# Altium footprint library PCB - CONNECTOR - MOLEX - MOLEX 0526100833.PcbLib: 1 footprints
Each footprint in its own frame and in the unit in brackets; x right, y up, seen from the top. Pads: shape width x height; smd on the part's side, far side on the other; paste and mask are expansions set on the pad; w line width, h text height; cw(c..) or ccw(c..) is an arc to the next point about the centre after c.
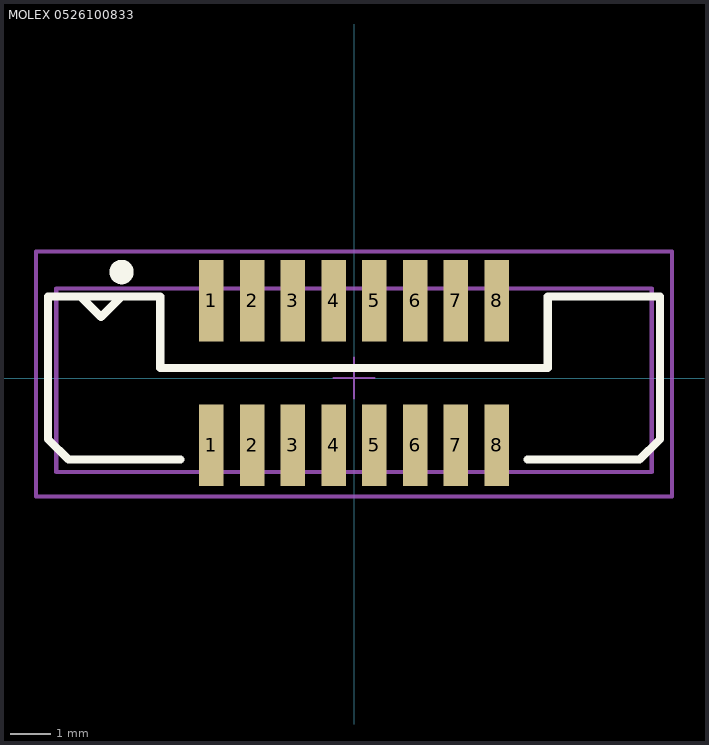
[diagram p0: the footprint, top view; thin cyan lines are the x and y axes]

## MOLEX 0526100833 [mm] "8 Position FPC Connector Contacts, Vertical - 1 Sided 0.039\" (1.00mm) Surface Mount"
height 7.25
pads (16):
  rect 0.6x2 smd mask+0.1: 1(-3.5,1.9) 1(-3.5,-1.65) 2(-2.5,1.9) 2(-2.5,-1.65) 3(-1.5,1.9) 3(-1.5,-1.65) 4(-0.5,1.9) 4(-0.5,-1.65) 5(0.5,1.9) 5(0.5,-1.65) 6(1.5,1.9) 6(1.5,-1.65) 7(2.5,1.9) 7(2.5,-1.65) 8(3.5,1.9) 8(3.5,-1.65)
Top Overlay:
  circle w0.3: c-5.7,2.6 r0.15
  lines w0.2: -6.7,2 -6.2,1.5 -5.7,2 ; -4.25,-2 -7,-2 -7.5,-1.5 -7.5,2 -4.75,2 -4.75,0.25 4.75,0.25 4.75,2 7.5,2 7.5,1.6 7.5,-1.5 7,-2 4.25,-2
Mechanical 13:
  lines w0.1: -7.3,-2.3 -7.3,2.2 7.3,2.2 7.3,-2.3 -7.3,-2.3
Mechanical 15 (Mech15):
  lines w0.05: -0.5,0 0,0 ; 0,-0.5 0,0 ; 0,0.5 0,0 ; 0.5,0 0,0
  lines w0.1: -7.8,-2.9 -7.8,3.1 7.8,3.1 7.8,-2.9 -7.8,-2.9
3D body "Molex - 526100833.stp": height 5.73, standoff -0.02, extent -7.3,-2.25 7.3,2.25